# Altium integrated library WeAct-ESP32C6-A.IntLib: 1 symbol
Pins are listed as number, name and electrical type; pins without a type are passive.

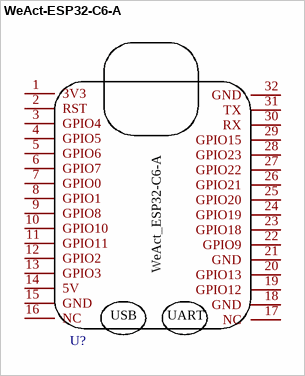
[diagram p0: symbol WeAct-ESP32-C6-A]

## WeAct-ESP32-C6-A
designator U?  (value not drawn)
Add into BOM: yes; Symbol: WeAct-ESP32-C6-A; Device: WeAct-ESP32-C6-A; Convert to PCB: yes
footprint WeAct-ESP32-C6-A
pins: 1 3V3, 2 RST, 3 GPIO4, 4 GPIO5, 5 GPIO6, 6 GPIO7, 7 GPIO0, 8 GPIO1, 9 GPIO8, 10 GPIO10, 11 GPIO11, 12 GPIO2, 13 GPIO3, 14 5V, 15 GND, 16 NC, 17 NC, 18 GND, 19 GPIO12, 20 GPIO13, 21 GND, 22 GPIO9, 23 GPIO18, 24 GPIO19, 25 GPIO20, 26 GPIO21, 27 GPIO22, 28 GPIO23, 29 GPIO15, 30 RX, 31 TX, 32 GND
text: WeAct_ESP32-C6-A; USB; UART